# EAGLE library part TPS5604030 (library TI_Components)
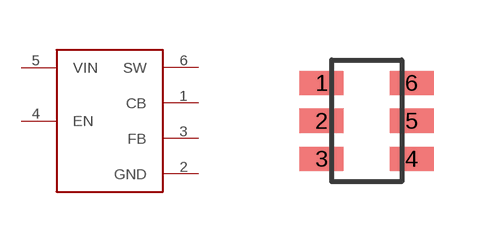
[diagram p0: symbol with the pads of SOT23-6; footprint SOT23-6]

Designator prefix -

## TPS5604030  [SOT23-6]
1  CB
2  GND  pwr
3  FB
4  EN
5  VIN  pwr
6  SW  pwr

## Footprint SOT23-6 (pad centres in mm)
smd 1.1 x 0.6: 1 -0.25,-0.575; 2 -0.25,-1.525; 3 -0.25,-2.475; 4 2,-2.475; 5 2,-1.525; 6 2,-0.575